# Altium schematic symbol library memory-sram.SCHLIB: 35 symbols
Pins are listed as number, name and electrical type; pins without a type are passive.

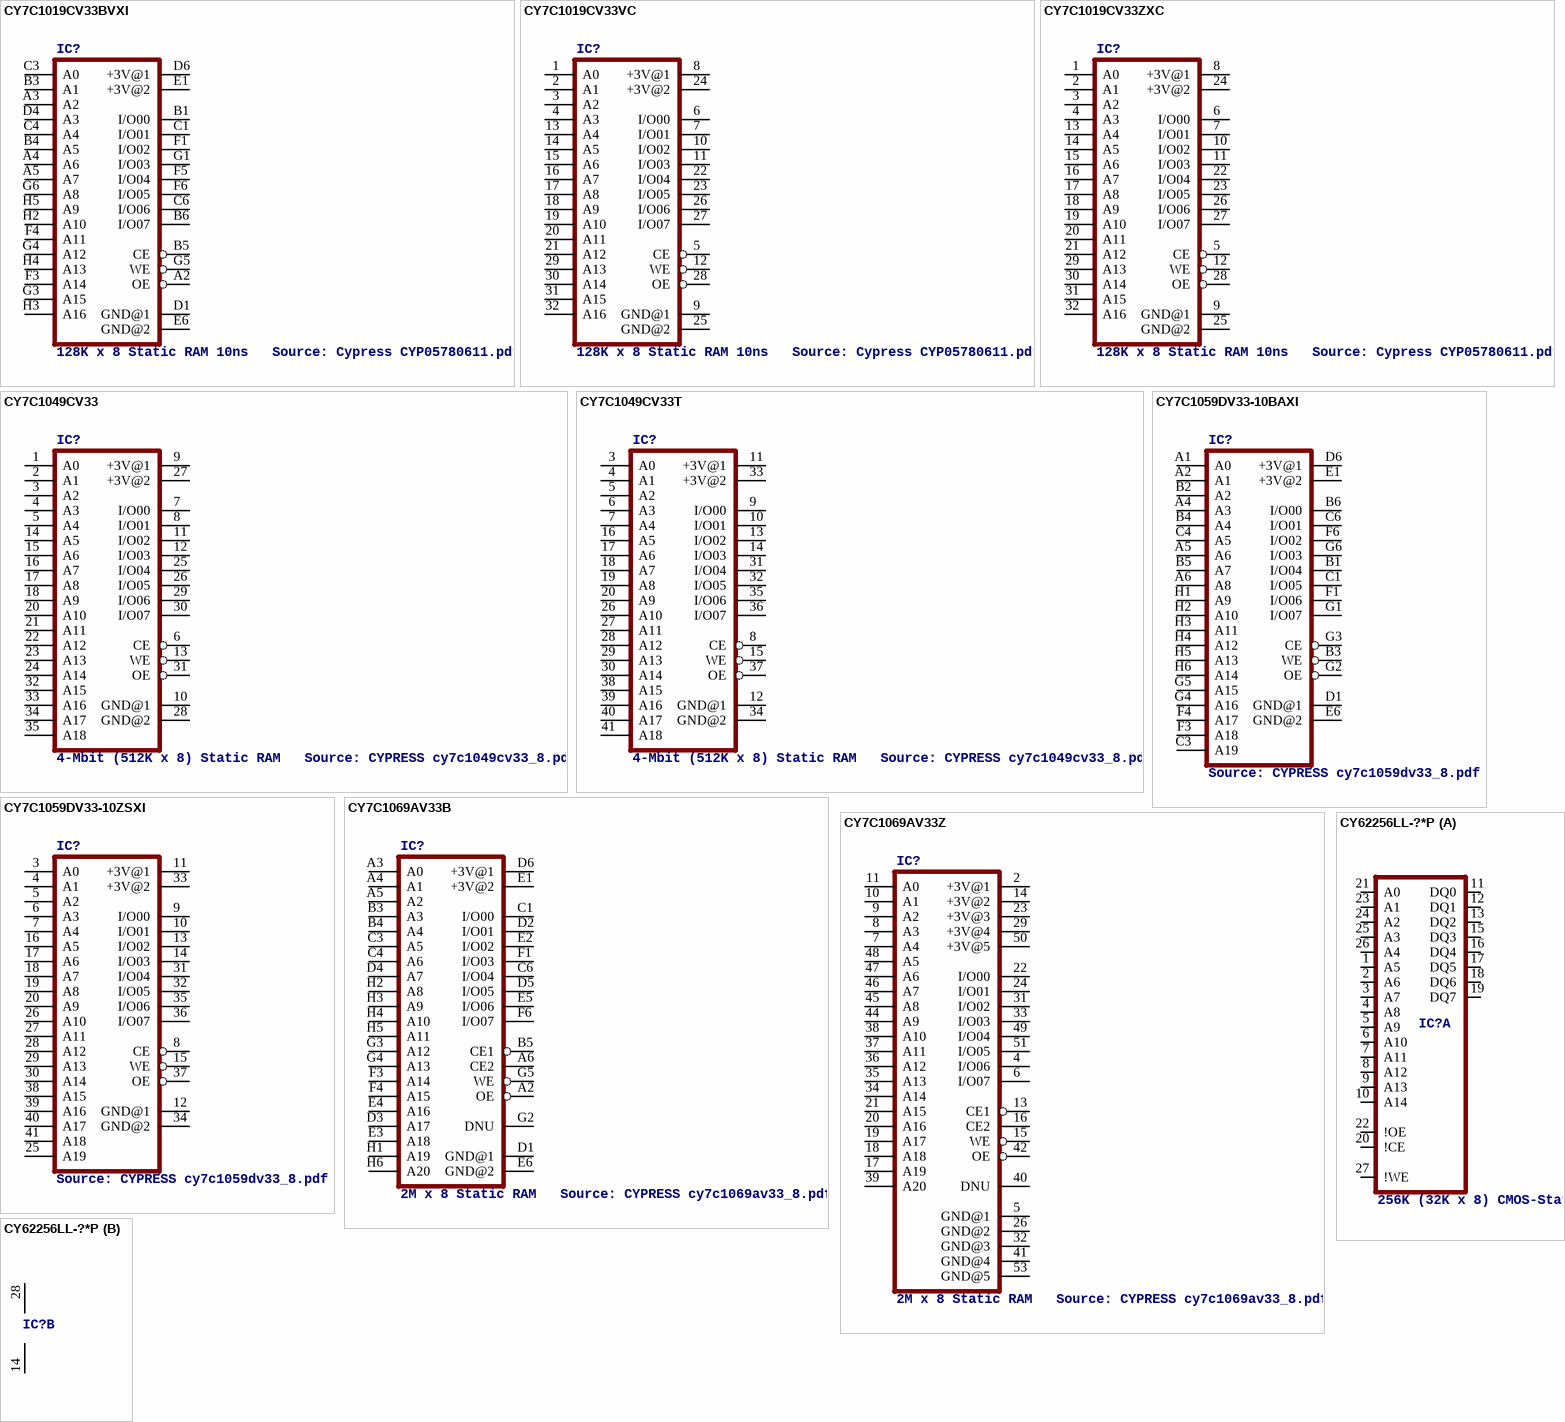
[diagram p0: symbols CY7C1019CV33BVXI to CY62256LL-?*P]

## CY7C1019CV33BVXI
designator IC?, comment 128K x 8 Static RAM 10ns   Source: Cypress CYP05780611.pdf
footprint VFBGA48
pins: A2 OE, A3 A2, A4 A6, A5 A7, B1 I/O00, B3 A1, B4 A5, B5 CE, B6 I/O07, C1 I/O01, C3 A0, C4 A4, C6 I/O06, D1 GND@1 (power), D4 A3, D6 +3V@1 (power), E1 +3V@2 (power), E6 GND@2 (power), F1 I/O02, F3 A14, F4 A11, F5 I/O04, F6 I/O05, G1 I/O03, G3 A15, G4 A12, G5 WE, G6 A8, H2 A10, H3 A16, H4 A13, H5 A9

## CY7C1019CV33VC
designator IC?, comment 128K x 8 Static RAM 10ns   Source: Cypress CYP05780611.pdf
footprint SOJ32-400
pins: 1 A0, 2 A1, 3 A2, 4 A3, 5 CE, 6 I/O00, 7 I/O01, 8 +3V@1 (power), 9 GND@1 (power), 10 I/O02, 11 I/O03, 12 WE, 13 A4, 14 A5, 15 A6, 16 A7, 17 A8, 18 A9, 19 A10, 20 A11, 21 A12, 22 I/O04, 23 I/O05, 24 +3V@2 (power), 25 GND@2 (power), 26 I/O06, 27 I/O07, 28 OE, 29 A13, 30 A14, 31 A15, 32 A16

## CY7C1019CV33ZXC
designator IC?, comment 128K x 8 Static RAM 10ns   Source: Cypress CYP05780611.pdf
footprint TSOPII-32
pins: 1 A0, 2 A1, 3 A2, 4 A3, 5 CE, 6 I/O00, 7 I/O01, 8 +3V@1 (power), 9 GND@1 (power), 10 I/O02, 11 I/O03, 12 WE, 13 A4, 14 A5, 15 A6, 16 A7, 17 A8, 18 A9, 19 A10, 20 A11, 21 A12, 22 I/O04, 23 I/O05, 24 +3V@2 (power), 25 GND@2 (power), 26 I/O06, 27 I/O07, 28 OE, 29 A13, 30 A14, 31 A15, 32 A16

## CY7C1049CV33
designator IC?, comment 4-Mbit (512K x 8) Static RAM   Source: CYPRESS cy7c1049cv33_8.pdf
footprint SOJV36-400
pins: 1 A0, 2 A1, 3 A2, 4 A3, 5 A4, 6 CE, 7 I/O00, 8 I/O01, 9 +3V@1 (power), 10 GND@1 (power), 11 I/O02, 12 I/O03, 13 WE, 14 A5, 15 A6, 16 A7, 17 A8, 18 A9, 20 A10, 21 A11, 22 A12, 23 A13, 24 A14, 25 I/O04, 26 I/O05, 27 +3V@2 (power), 28 GND@2 (power), 29 I/O06, 30 I/O07, 31 OE, 32 A15, 33 A16, 34 A17, 35 A18

## CY7C1049CV33T
designator IC?, comment 4-Mbit (512K x 8) Static RAM   Source: CYPRESS cy7c1049cv33_8.pdf
footprint TSOPII-Z44
pins: 3 A0, 4 A1, 5 A2, 6 A3, 7 A4, 8 CE, 9 I/O00, 10 I/O01, 11 +3V@1 (power), 12 GND@1 (power), 13 I/O02, 14 I/O03, 15 WE, 16 A5, 17 A6, 18 A7, 19 A8, 20 A9, 26 A10, 27 A11, 28 A12, 29 A13, 30 A14, 31 I/O04, 32 I/O05, 33 +3V@2 (power), 34 GND@2 (power), 35 I/O06, 36 I/O07, 37 OE, 38 A15, 39 A16, 40 A17, 41 A18

## CY7C1059DV33-10BAXI
designator IC?, comment Source: CYPRESS cy7c1059dv33_8.pdf
footprint FBGA36
pins: A1 A0, A2 A1, A4 A3, A5 A6, A6 A8, B1 I/O04, B2 A2, B3 WE, B4 A4, B5 A7, B6 I/O00, C1 I/O05, C3 A19, C4 A5, C6 I/O01, D1 GND@1 (power), D6 +3V@1 (power), E1 +3V@2 (power), E6 GND@2 (power), F1 I/O06, F3 A18, F4 A17, F6 I/O02, G1 I/O07, G2 OE, G3 CE, G4 A16, G5 A15, G6 I/O03, H1 A9, H2 A10, H3 A11, H4 A12, H5 A13, H6 A14

## CY7C1059DV33-10ZSXI
designator IC?, comment Source: CYPRESS cy7c1059dv33_8.pdf
footprint TSOPII-Z44
pins: 3 A0, 4 A1, 5 A2, 6 A3, 7 A4, 8 CE, 9 I/O00, 10 I/O01, 11 +3V@1 (power), 12 GND@1 (power), 13 I/O02, 14 I/O03, 15 WE, 16 A5, 17 A6, 18 A7, 19 A8, 20 A9, 25 A19, 26 A10, 27 A11, 28 A12, 29 A13, 30 A14, 31 I/O04, 32 I/O05, 33 +3V@2 (power), 34 GND@2 (power), 35 I/O06, 36 I/O07, 37 OE, 38 A15, 39 A16, 40 A17, 41 A18

## CY7C1069AV33B
designator IC?, comment 2M x 8 Static RAM   Source: CYPRESS cy7c1069av33_8.pdf
footprint FBGA60-8X20
pins: A2 OE, A3 A0, A4 A1, A5 A2, A6 CE2, B3 A3, B4 A4, B5 CE1, C1 I/O00, C3 A5, C4 A6, C6 I/O04, D1 GND@1 (power), D2 I/O01, D3 A17, D4 A7, D5 I/O05, D6 +3V@1 (power), E1 +3V@2 (power), E2 I/O02, E3 A18, E4 A16, E5 I/O06, E6 GND@2 (power), F1 I/O03, F3 A14, F4 A15, F6 I/O07, G2 DNU, G3 A12, G4 A13, G5 WE, H1 A19, H2 A8, H3 A9, H4 A10, H5 A11, H6 A20

## CY7C1069AV33Z
designator IC?, comment 2M x 8 Static RAM   Source: CYPRESS cy7c1069av33_8.pdf
footprint TSOPII-54
pins: 2 +3V@1 (power), 4 I/O06, 5 GND@1 (power), 6 I/O07, 7 A4, 8 A3, 9 A2, 10 A1, 11 A0, 13 CE1, 14 +3V@2 (power), 15 WE, 16 CE2, 17 A19, 18 A18, 19 A17, 20 A16, 21 A15, 22 I/O00, 23 +3V@3 (power), 24 I/O01, 26 GND@2 (power), 29 +3V@4 (power), 31 I/O02, 32 GND@3 (power), 33 I/O03, 34 A14, 35 A13, 36 A12, 37 A11, 38 A10, 39 A20, 40 DNU, 41 GND@4 (power), 42 OE, 44 A9, 45 A8, 46 A7, 47 A6, 48 A5, 49 I/O04, 50 +3V@5 (power), 51 I/O05, 53 GND@5 (power)

## CY62256LL-?*P
designator IC?, comment 256K (32K x 8) CMOS-Static RAM   Source: http://download.cypress.com.edgesuite.net/design_resources/datasheets/contents/cy62256_8.pdf
footprint DIL28-6
part A pins: 1 A5, 2 A6, 3 A7, 4 A8, 5 A9, 6 A10, 7 A11, 8 A12, 9 A13, 10 A14, 11 DQ0, 12 DQ1, 13 DQ2, 15 DQ3, 16 DQ4, 17 DQ5, 18 DQ6, 19 DQ7, 20 !CE, 21 A0, 22 !OE, 23 A1, 24 A2, 25 A3, 26 A4, 27 !WE
part B pins: 14 GND (power), 28 VCC (power)

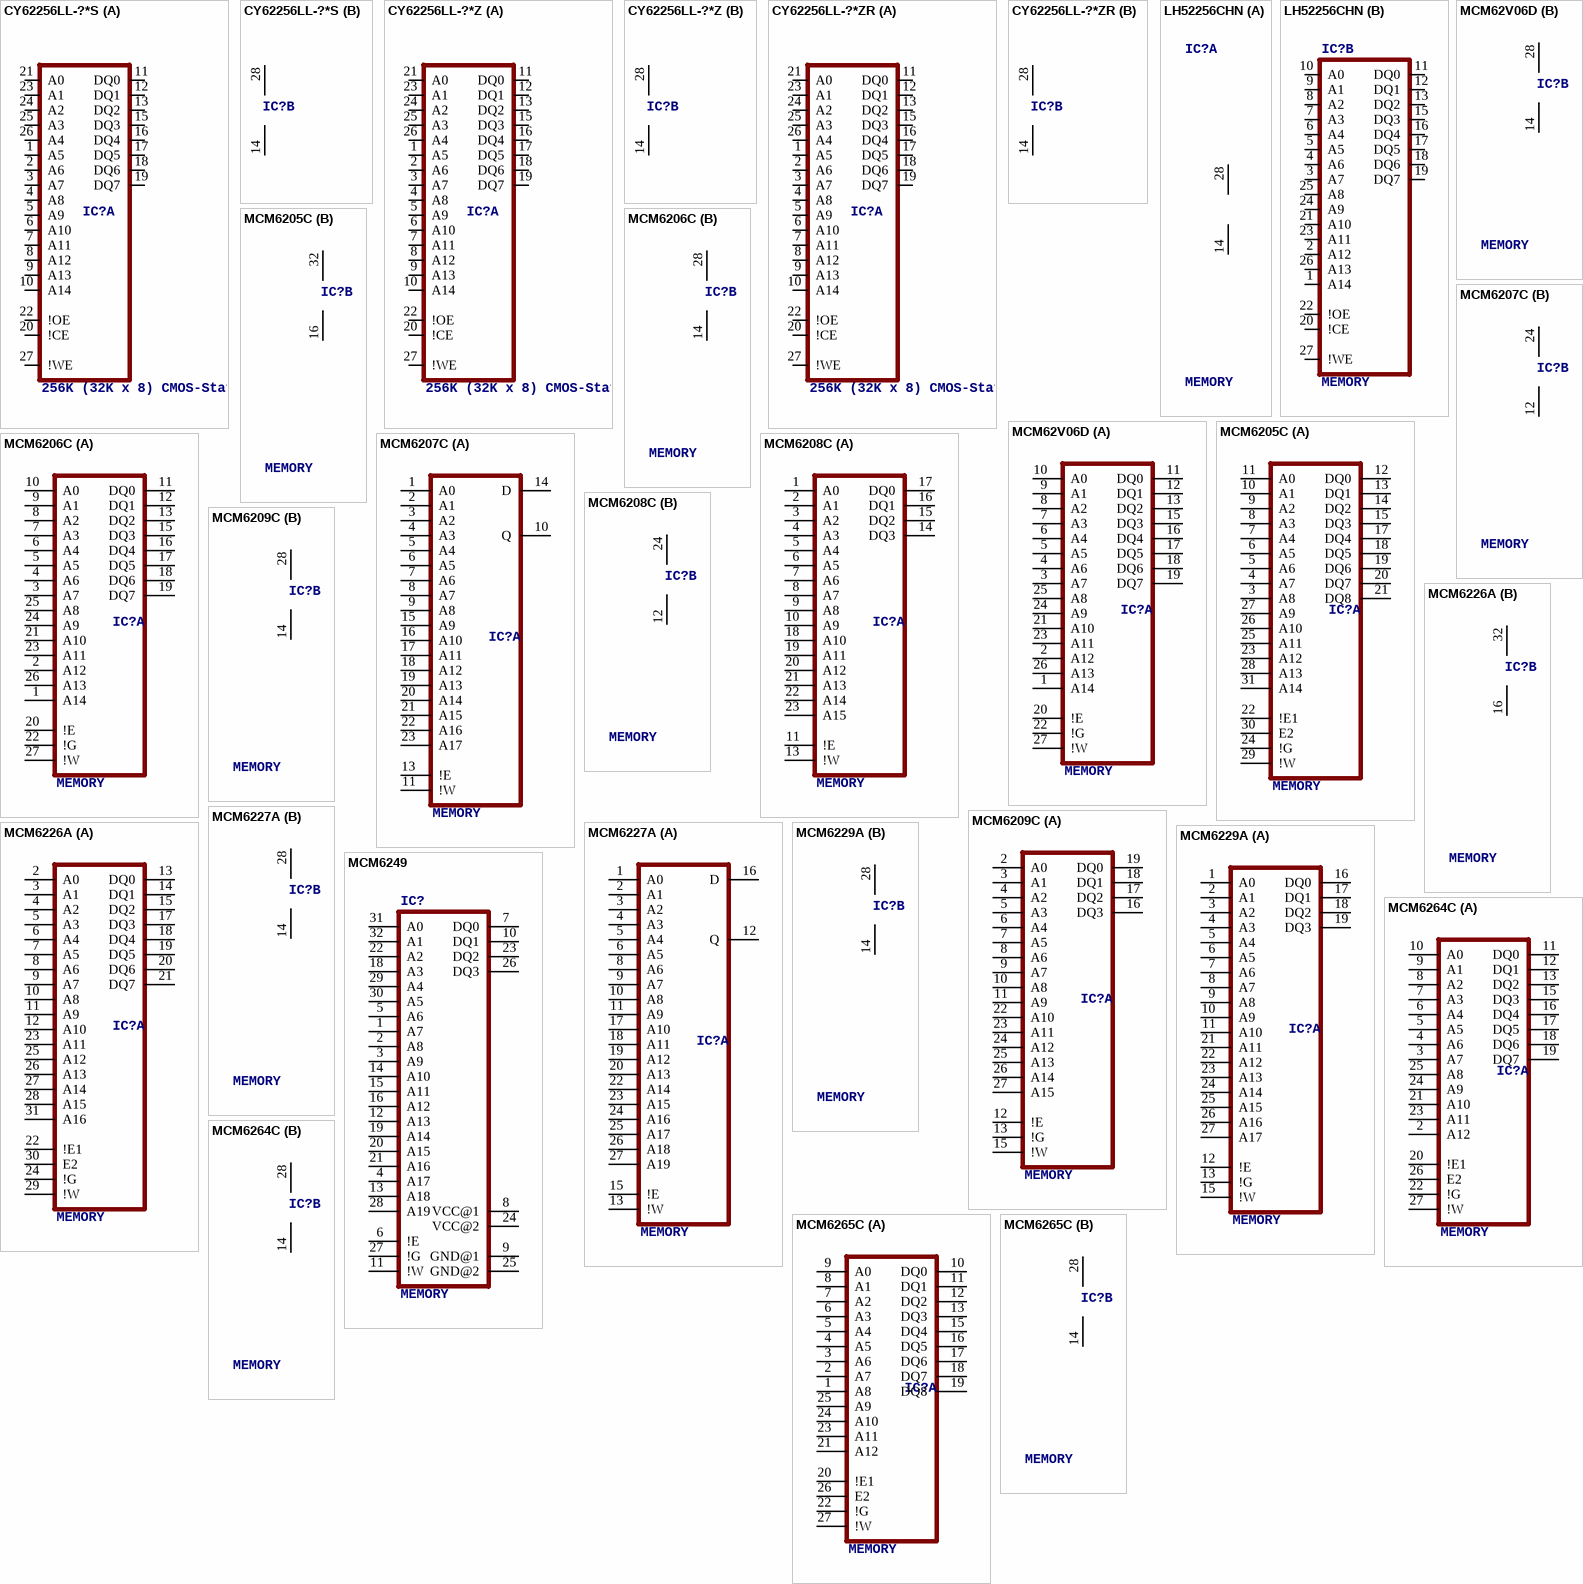
[diagram p1: symbols CY62256LL-?*S to MCM6265C]

## CY62256LL-?*S
designator IC?, comment 256K (32K x 8) CMOS-Static RAM   Source: http://download.cypress.com.edgesuite.net/design_resources/datasheets/contents/cy62256_8.pdf
footprint SOJ28/3
part A pins: 1 A5, 2 A6, 3 A7, 4 A8, 5 A9, 6 A10, 7 A11, 8 A12, 9 A13, 10 A14, 11 DQ0, 12 DQ1, 13 DQ2, 15 DQ3, 16 DQ4, 17 DQ5, 18 DQ6, 19 DQ7, 20 !CE, 21 A0, 22 !OE, 23 A1, 24 A2, 25 A3, 26 A4, 27 !WE
part B pins: 14 GND (power), 28 VCC (power)

## CY62256LL-?*Z
designator IC?, comment 256K (32K x 8) CMOS-Static RAM   Source: http://download.cypress.com.edgesuite.net/design_resources/datasheets/contents/cy62256_8.pdf
footprint TSOP1-28
part A pins: 1 A5, 2 A6, 3 A7, 4 A8, 5 A9, 6 A10, 7 A11, 8 A12, 9 A13, 10 A14, 11 DQ0, 12 DQ1, 13 DQ2, 15 DQ3, 16 DQ4, 17 DQ5, 18 DQ6, 19 DQ7, 20 !CE, 21 A0, 22 !OE, 23 A1, 24 A2, 25 A3, 26 A4, 27 !WE
part B pins: 14 GND (power), 28 VCC (power)

## CY62256LL-?*ZR
designator IC?, comment 256K (32K x 8) CMOS-Static RAM   Source: http://download.cypress.com.edgesuite.net/design_resources/datasheets/contents/cy62256_8.pdf
footprint TSOP1-28-R
part A pins: 1 A5, 2 A6, 3 A7, 4 A8, 5 A9, 6 A10, 7 A11, 8 A12, 9 A13, 10 A14, 11 DQ0, 12 DQ1, 13 DQ2, 15 DQ3, 16 DQ4, 17 DQ5, 18 DQ6, 19 DQ7, 20 !CE, 21 A0, 22 !OE, 23 A1, 24 A2, 25 A3, 26 A4, 27 !WE
part B pins: 14 GND (power), 28 VCC (power)

## LH52256CHN
designator IC?, comment MEMORY
footprint SOP28
part A pins: 14 GND (power), 28 VCC (power)
part B pins: 1 A14, 2 A12, 3 A7, 4 A6, 5 A5, 6 A4, 7 A3, 8 A2, 9 A1, 10 A0, 11 DQ0, 12 DQ1, 13 DQ2, 15 DQ3, 16 DQ4, 17 DQ5, 18 DQ6, 19 DQ7, 20 !CE, 21 A10, 22 !OE, 23 A11, 24 A9, 25 A8, 26 A13, 27 !WE

## MCM62V06D
designator IC?, comment MEMORY
footprint SOJ28/3
part A pins: 1 A14, 2 A12, 3 A7, 4 A6, 5 A5, 6 A4, 7 A3, 8 A2, 9 A1, 10 A0, 11 DQ0, 12 DQ1, 13 DQ2, 15 DQ3, 16 DQ4, 17 DQ5, 18 DQ6, 19 DQ7, 20 !E, 21 A10, 22 !G, 23 A11, 24 A9, 25 A8, 26 A13, 27 !W
part B pins: 14 GND (power), 28 VCC (power)

## MCM6205C
designator IC?, comment MEMORY
footprint SOJ32/3
part A pins: 3 A8, 4 A7, 5 A6, 6 A5, 7 A4, 8 A3, 9 A2, 10 A1, 11 A0, 12 DQ0, 13 DQ1, 14 DQ2, 15 DQ3, 17 DQ4, 18 DQ5, 19 DQ6, 20 DQ7, 21 DQ8, 22 !E1, 23 A12, 24 !G, 25 A11, 26 A10, 27 A9, 28 A13, 29 !W, 30 E2, 31 A14
part B pins: 16 GND (power), 32 VCC (power)

## MCM6206C
designator IC?, comment MEMORY
footprint SOJ28/3
part A pins: 1 A14, 2 A12, 3 A7, 4 A6, 5 A5, 6 A4, 7 A3, 8 A2, 9 A1, 10 A0, 11 DQ0, 12 DQ1, 13 DQ2, 15 DQ3, 16 DQ4, 17 DQ5, 18 DQ6, 19 DQ7, 20 !E, 21 A10, 22 !G, 23 A11, 24 A9, 25 A8, 26 A13, 27 !W
part B pins: 14 GND (power), 28 VCC (power)

## MCM6207C
designator IC?, comment MEMORY
footprint SOJ24/3
part A pins: 1 A0, 2 A1, 3 A2, 4 A3, 5 A4, 6 A5, 7 A6, 8 A7, 9 A8, 10 Q (hiz), 11 !W, 13 !E, 14 D, 15 A9, 16 A10, 17 A11, 18 A12, 19 A13, 20 A14, 21 A15, 22 A16, 23 A17
part B pins: 12 GND (power), 24 VCC (power)

## MCM6208C
designator IC?, comment MEMORY
footprint SOJ24/3
part A pins: 1 A0, 2 A1, 3 A2, 4 A3, 5 A4, 6 A5, 7 A6, 8 A7, 9 A8, 10 A9, 11 !E, 13 !W, 14 DQ3, 15 DQ2, 16 DQ1, 17 DQ0, 18 A10, 19 A11, 20 A12, 21 A13, 22 A14, 23 A15
part B pins: 12 GND (power), 24 VCC (power)

## MCM6209C
designator IC?, comment MEMORY
footprint SOJ28/3
part A pins: 2 A0, 3 A1, 4 A2, 5 A3, 6 A4, 7 A5, 8 A6, 9 A7, 10 A8, 11 A9, 12 !E, 13 !G, 15 !W, 16 DQ3, 17 DQ2, 18 DQ1, 19 DQ0, 22 A10, 23 A11, 24 A12, 25 A13, 26 A14, 27 A15
part B pins: 14 GND (power), 28 VCC (power)

## MCM6226A
designator IC?, comment MEMORY
footprint SOJ32/4
part A pins: 2 A0, 3 A1, 4 A2, 5 A3, 6 A4, 7 A5, 8 A6, 9 A7, 10 A8, 11 A9, 12 A10, 13 DQ0, 14 DQ1, 15 DQ2, 17 DQ3, 18 DQ4, 19 DQ5, 20 DQ6, 21 DQ7, 22 !E1, 23 A11, 24 !G, 25 A12, 26 A13, 27 A14, 28 A15, 29 !W, 30 E2, 31 A16
part B pins: 16 GND (power), 32 VCC (power)

## MCM6227A
designator IC?, comment MEMORY
footprint SOJ28/4
part A pins: 1 A0, 2 A1, 3 A2, 4 A3, 5 A4, 6 A5, 8 A6, 9 A7, 10 A8, 11 A9, 12 Q (hiz), 13 !W, 15 !E, 16 D, 17 A10, 18 A11, 19 A12, 20 A13, 22 A14, 23 A15, 24 A16, 25 A17, 26 A18, 27 A19
part B pins: 14 GND (power), 28 VCC (power)

## MCM6229A
designator IC?, comment MEMORY
footprint SOJ28/4
part A pins: 1 A0, 2 A1, 3 A2, 4 A3, 5 A4, 6 A5, 7 A6, 8 A7, 9 A8, 10 A9, 11 A10, 12 !E, 13 !G, 15 !W, 16 DQ0, 17 DQ1, 18 DQ2, 19 DQ3, 21 A11, 22 A12, 23 A13, 24 A14, 25 A15, 26 A16, 27 A17
part B pins: 14 GND (power), 28 VCC (power)

## MCM6249
designator IC?, comment MEMORY
footprint SOJ32/4
pins: 1 A7, 2 A8, 3 A9, 4 A17, 5 A6, 6 !E, 7 DQ0, 8 VCC@1 (power), 9 GND@1 (power), 10 DQ1, 11 !W, 12 A13, 13 A18, 14 A10, 15 A11, 16 A12, 18 A3, 19 A14, 20 A15, 21 A16, 22 A2, 23 DQ2, 24 VCC@2 (power), 25 GND@2 (power), 26 DQ3, 27 !G, 28 A19, 29 A4, 30 A5, 31 A0, 32 A1

## MCM6264C
designator IC?, comment MEMORY
footprint SOJ28/3
part A pins: 2 A12, 3 A7, 4 A6, 5 A5, 6 A4, 7 A3, 8 A2, 9 A1, 10 A0, 11 DQ0, 12 DQ1, 13 DQ2, 15 DQ3, 16 DQ4, 17 DQ5, 18 DQ6, 19 DQ7, 20 !E1, 21 A10, 22 !G, 23 A11, 24 A9, 25 A8, 26 E2, 27 !W
part B pins: 14 GND (power), 28 VCC (power)

## MCM6265C
designator IC?, comment MEMORY
footprint SOJ28/3
part A pins: 1 A8, 2 A7, 3 A6, 4 A5, 5 A4, 6 A3, 7 A2, 8 A1, 9 A0, 10 DQ0, 11 DQ1, 12 DQ2, 13 DQ3, 15 DQ4, 16 DQ5, 17 DQ6, 18 DQ7, 19 DQ8, 20 !E1, 21 A12, 22 !G, 23 A11, 24 A10, 25 A9, 26 E2, 27 !W
part B pins: 14 GND (power), 28 VCC (power)

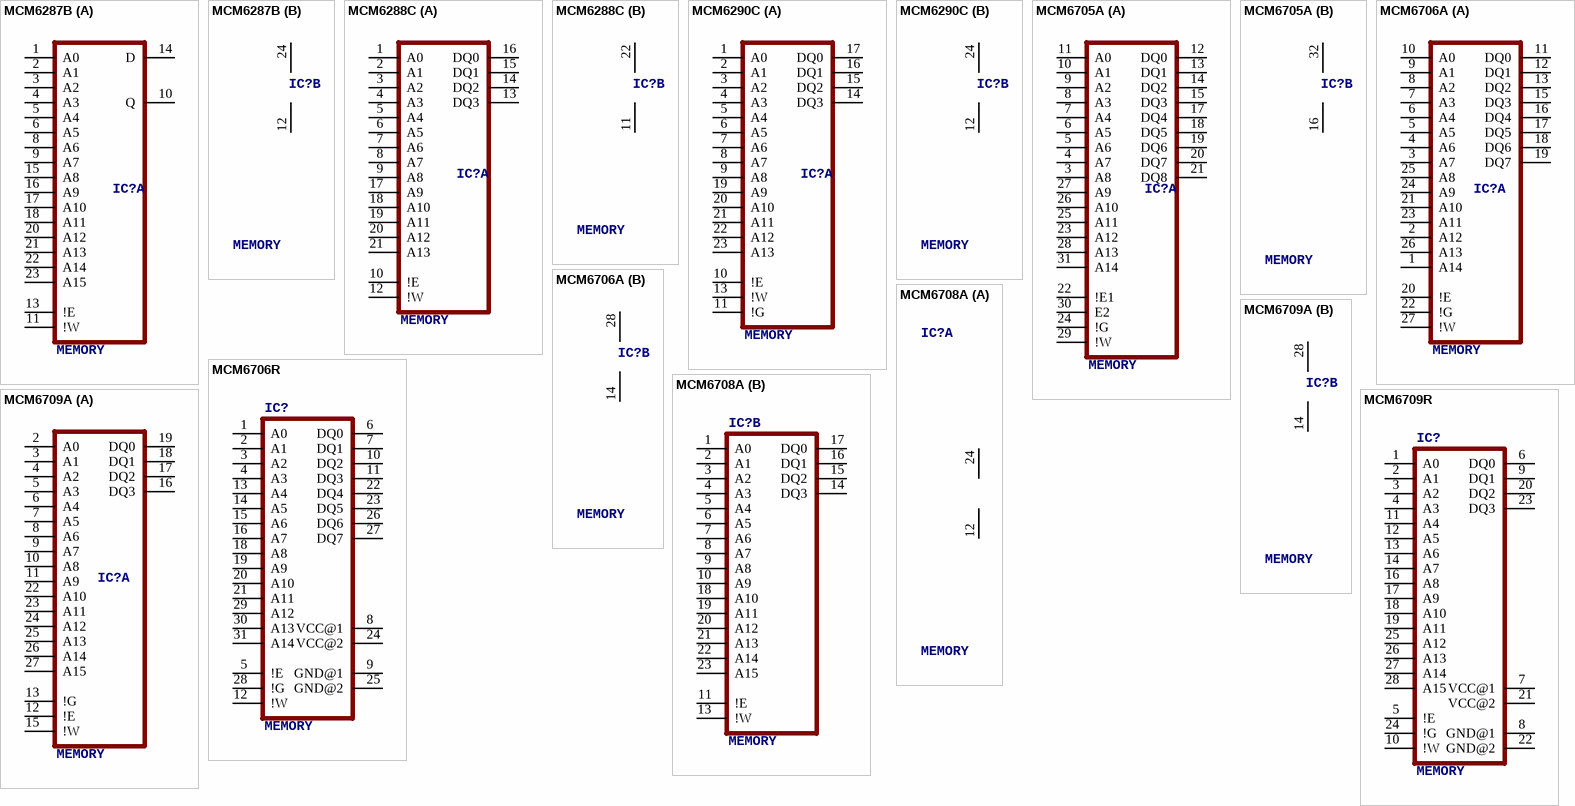
[diagram p2: symbols MCM6287B to MCM6709R]

## MCM6287B
designator IC?, comment MEMORY
footprint SOJ24/3
part A pins: 1 A0, 2 A1, 3 A2, 4 A3, 5 A4, 6 A5, 8 A6, 9 A7, 10 Q (hiz), 11 !W, 13 !E, 14 D, 15 A8, 16 A9, 17 A10, 18 A11, 20 A12, 21 A13, 22 A14, 23 A15
part B pins: 12 GND (power), 24 VCC (power)

## MCM6288C
designator IC?, comment MEMORY
footprint DIL22
part A pins: 1 A0, 2 A1, 3 A2, 4 A3, 5 A4, 6 A5, 7 A6, 8 A7, 9 A8, 10 !E, 12 !W, 13 DQ3, 14 DQ2, 15 DQ1, 16 DQ0, 17 A9, 18 A10, 19 A11, 20 A12, 21 A13
part B pins: 11 GND (power), 22 VCC (power)

## MCM6290C
designator IC?, comment MEMORY
footprint SOJ24/3
part A pins: 1 A0, 2 A1, 3 A2, 4 A3, 5 A4, 6 A5, 7 A6, 8 A7, 9 A8, 10 !E, 11 !G, 13 !W, 14 DQ3, 15 DQ2, 16 DQ1, 17 DQ0, 19 A9, 20 A10, 21 A11, 22 A12, 23 A13
part B pins: 12 GND (power), 24 VCC (power)

## MCM6705A
designator IC?, comment MEMORY
footprint SOJ32/3
part A pins: 3 A8, 4 A7, 5 A6, 6 A5, 7 A4, 8 A3, 9 A2, 10 A1, 11 A0, 12 DQ0, 13 DQ1, 14 DQ2, 15 DQ3, 17 DQ4, 18 DQ5, 19 DQ6, 20 DQ7, 21 DQ8, 22 !E1, 23 A12, 24 !G, 25 A11, 26 A10, 27 A9, 28 A13, 29 !W, 30 E2, 31 A14
part B pins: 16 GND (power), 32 VCC (power)

## MCM6706A
designator IC?, comment MEMORY
footprint SOJ28/3
part A pins: 1 A14, 2 A12, 3 A7, 4 A6, 5 A5, 6 A4, 7 A3, 8 A2, 9 A1, 10 A0, 11 DQ0, 12 DQ1, 13 DQ2, 15 DQ3, 16 DQ4, 17 DQ5, 18 DQ6, 19 DQ7, 20 !E, 21 A10, 22 !G, 23 A11, 24 A9, 25 A8, 26 A13, 27 !W
part B pins: 14 GND (power), 28 VCC (power)

## MCM6706R
designator IC?, comment MEMORY
footprint SOJ32/3
pins: 1 A0, 2 A1, 3 A2, 4 A3, 5 !E, 6 DQ0, 7 DQ1, 8 VCC@1 (power), 9 GND@1 (power), 10 DQ2, 11 DQ3, 12 !W, 13 A4, 14 A5, 15 A6, 16 A7, 18 A8, 19 A9, 20 A10, 21 A11, 22 DQ4, 23 DQ5, 24 VCC@2 (power), 25 GND@2 (power), 26 DQ6, 27 DQ7, 28 !G, 29 A12, 30 A13, 31 A14

## MCM6708A
designator IC?, comment MEMORY
footprint SOJ24/3
part A pins: 12 GND (power), 24 VCC (power)
part B pins: 1 A0, 2 A1, 3 A2, 4 A3, 5 A4, 6 A5, 7 A6, 8 A7, 9 A8, 10 A9, 11 !E, 13 !W, 14 DQ3, 15 DQ2, 16 DQ1, 17 DQ0, 18 A10, 19 A11, 20 A12, 21 A13, 22 A14, 23 A15

## MCM6709A
designator IC?, comment MEMORY
footprint SOJ28/3
part A pins: 2 A0, 3 A1, 4 A2, 5 A3, 6 A4, 7 A5, 8 A6, 9 A7, 10 A8, 11 A9, 12 !E, 13 !G, 15 !W, 16 DQ3, 17 DQ2, 18 DQ1, 19 DQ0, 22 A10, 23 A11, 24 A12, 25 A13, 26 A14, 27 A15
part B pins: 14 GND (power), 28 VCC (power)

## MCM6709R
designator IC?, comment MEMORY
footprint SOJ28/3
pins: 1 A0, 2 A1, 3 A2, 4 A3, 5 !E, 6 DQ0, 7 VCC@1 (power), 8 GND@1 (power), 9 DQ1, 10 !W, 11 A4, 12 A5, 13 A6, 14 A7, 16 A8, 17 A9, 18 A10, 19 A11, 20 DQ2, 21 VCC@2 (power), 22 GND@2 (power), 23 DQ3, 24 !G, 25 A12, 26 A13, 27 A14, 28 A15